# Altium schematic symbol library ICs_Misc.SchLib: 36 symbols
Pins are listed as number, name and electrical type; pins without a type are passive.

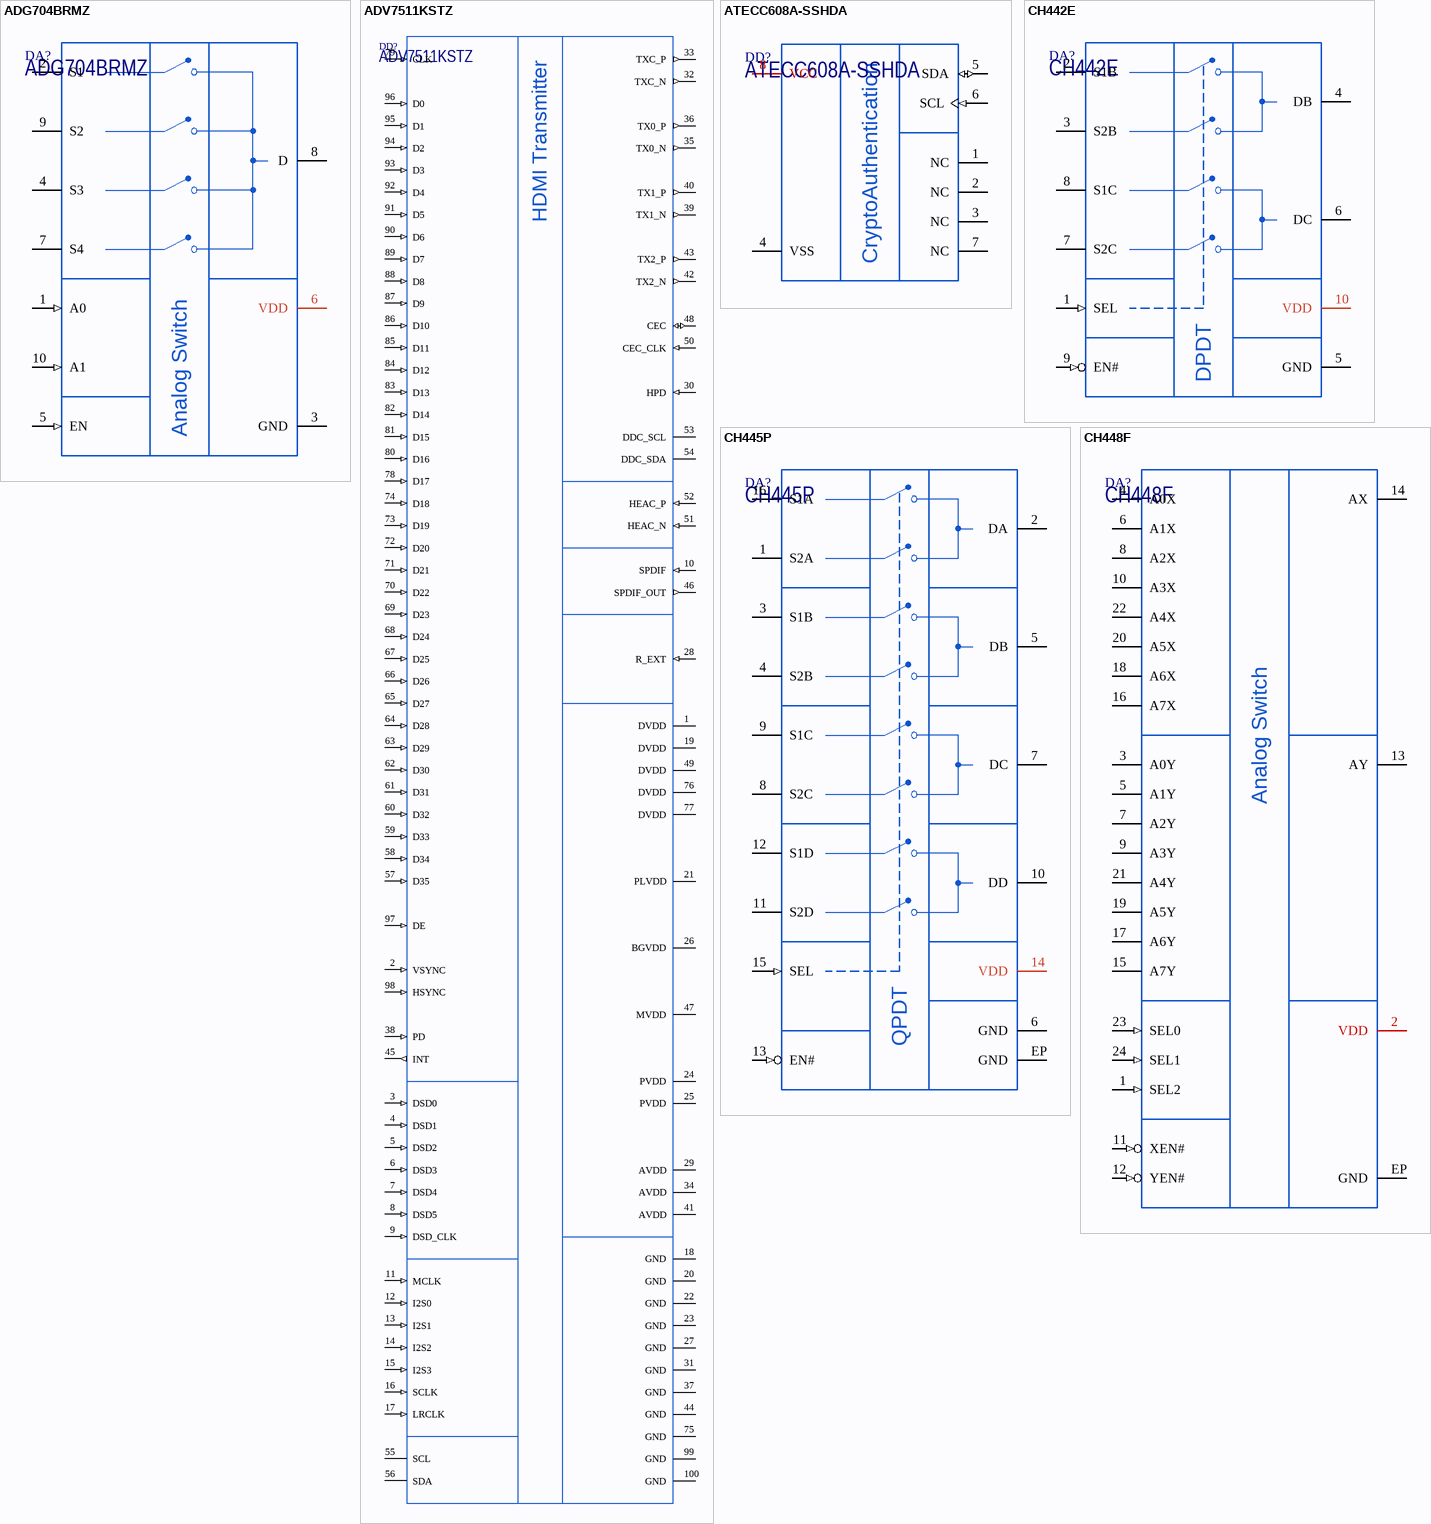
[diagram p0: symbols ADG704BRMZ to CH448F]

## ADG704BRMZ
designator DA?
CMOS Low Voltage 4 Ohm, 4-Channel Multiplexer; Manufacturer: Analog Devices; Marking: 9B; ItemType: IC; ItemSubType: Mux; PartNumber: ADG704BRMZ; Package: MSOP-10; Mounting: SMD
footprint RM10_ADG704 (uSOIC-10, 10-Leads, Body 3.00x3.00mm, Pitch 0.5mm, AD Reference RM-10)
pins: 1 A0 (in), 2 S1, 3 GND, 4 S3, 5 EN (in), 6 VDD (power), 7 S4, 8 D, 9 S2, 10 A1 (in)
text: Analog Switch

## ADV7511KSTZ
designator DD?
225 MHz, High Performance HDMI Transmitter with ARC; Manufacturer: Analog Devices; ItemType: IC; ItemSubType: Bridge; PartNumber: ADV7511KSTZ; Package: LQFP-100; Marking: ADV7511; Mounting: SMD
footprint LQFP100_ADV7511 (Analog Devices case style ST-100, compatible JEDEC MS-026-BED, 100-Leads, Body 14,00x14,00mm, Pitch 0,50mm)
pins: 1 DVDD (power), 2 VSYNC (in), 3 DSD0 (in), 4 DSD1 (in), 5 DSD2 (in), 6 DSD3 (in), 7 DSD4 (in), 8 DSD5 (in), 9 DSD_CLK (in), 10 SPDIF (in), 11 MCLK (in), 12 I2S0 (in), 13 I2S1 (in), 14 I2S2 (in), 15 I2S3 (in), 16 SCLK (in), 17 LRCLK (in), 18 GND, 19 DVDD (power), 20 GND, 21 PLVDD (power), 22 GND, 23 GND, 24 PVDD (power), 25 PVDD (power), 26 BGVDD (power), 27 GND, 28 R_EXT (in), 29 AVDD (power), 30 HPD (in), 31 GND, 32 TXC_N (out), 33 TXC_P (out), 34 AVDD (power), 35 TX0_N (out), 36 TX0_P (out), 37 GND, 38 PD (in), 39 TX1_N (out), 40 TX1_P (out), 41 AVDD (power), 42 TX2_N (out), 43 TX2_P (out), 44 GND, 45 INT (out), 46 SPDIF_OUT (out), 47 MVDD (power), 48 CEC (io), 49 DVDD (power), 50 CEC_CLK (in), 51 HEAC_N (in), 52 HEAC_P (in), 53 DDC_SCL (oc), 54 DDC_SDA (oc), 55 SCL (oc), 56 SDA (oc), 57 D35 (in), 58 D34 (in), 59 D33 (in), 60 D32 (in), 61 D31 (in), 62 D30 (in), 63 D29 (in), 64 D28 (in), 65 D27 (in), 66 D26 (in), 67 D25 (in), 68 D24 (in), 69 D23 (in), 70 D22 (in), 71 D21 (in), 72 D20 (in), 73 D19 (in), 74 D18 (in), 75 GND, 76 DVDD (power), 77 DVDD (power), 78 D17 (in), 79 CLK (in), 80 D16 (in), 81 D15 (in), 82 D14 (in), 83 D13 (in), 84 D12 (in), 85 D11 (in), 86 D10 (in), 87 D9 (in), 88 D8 (in), 89 D7 (in), 90 D6 (in), 91 D5 (in), 92 D4 (in), 93 D3 (in), 94 D2 (in), 95 D1 (in), 96 D0 (in), 97 DE (in), 98 HSYNC (in), 99 GND, 100 GND
text: HDMI Transmitter

## ATECC608A-SSHDA
designator DD?
Cryptographic Co-processor with Secure Hardware-based Key Storage; Manufacturer: Microchip; ItemType: IC; ItemSubType: CryptoAuthentication; Package: SOIC-8; PartNumber: ATECC608A-SSHDA; Mounting: SMD
footprint SOIC8_JEDEC_MS012AA (SOIC, 8-Leads, Body 3.90x4.90mm, Pitch 1.27mm)
footprint SOIC8_ATECC608A_With_UDFN8 (SOIC-8 package with UDFN-8 2mm x 3mm, 0.5mm pitch)
pins: 1 NC (hiz), 2 NC (hiz), 3 NC (hiz), 4 VSS, 5 SDA (io), 6 SCL (in), 7 NC (hiz), 8 VCC (power)

## CH442E
designator DA?
Double-pole Double-throw Low-Resistance Analog Switch IC; Manufacturer: WinChipHead; ItemSubType: Mux; PartNumber: CH442E; Package: MSOP-10; ItemType: IC; Mounting: SMD
footprint MSOP10_WCH (MSOP, 10-Leads, Body 3.00x3.00mm, Pitch 0.5mm)
pins: 1 SEL (in), 2 S1B, 3 S2B, 4 DB, 5 GND, 6 DC, 7 S2C, 8 S1C, 9 EN# (in), 10 VDD (power)
text: DPDT

## CH445P
designator DA?
Quad-pole Double-throw 3.3V Low-Resistance Analog Switch IC; Manufacturer: WinChipHead; ItemSubType: Mux; PartNumber: CH445P; Package: MSOP-10; ItemType: IC; Mounting: SMD
footprint QFN16_WCH (QFN16 3mm x 3mm, 0.5mm pitch)
pins: 1 S2A, 2 DA, 3 S1B, 4 S2B, 5 DB, 6 GND, 7 DC, 8 S2C, 9 S1C, 10 DD, 11 S2D, 12 S1D, 13 EN# (in), 14 VDD (power), 15 SEL (in), 16 S1A, EP GND
text: QPDT

## CH448F
designator DA?
Single-pole 16-throw, or Differential Channel Double-pole Eight-throw 5V / Low-Resistance Analog Switch IC; Manufacturer: WinChipHead; ItemSubType: Mux; PartNumber: CH448F; Package: QFN-24; ItemType: IC; Mounting: SMD
footprint QFN24_CH448F (QFN, 24-Leads, Body 4x4mm, Pitch 0.50mm, Thermal Pad 2.8x2.8mm)
pins: 1 SEL2 (in), 2 VDD (power), 3 A0Y, 4 A0X, 5 A1Y, 6 A1X, 7 A2Y, 8 A2X, 9 A3Y, 10 A3X, 11 XEN# (in), 12 YEN# (in), 13 AY, 14 AX, 15 A7Y, 16 A7X, 17 A6Y, 18 A6X, 19 A5Y, 20 A5X, 21 A4Y, 22 A4X, 23 SEL0 (in), 24 SEL1 (in), EP GND
text: Analog Switch

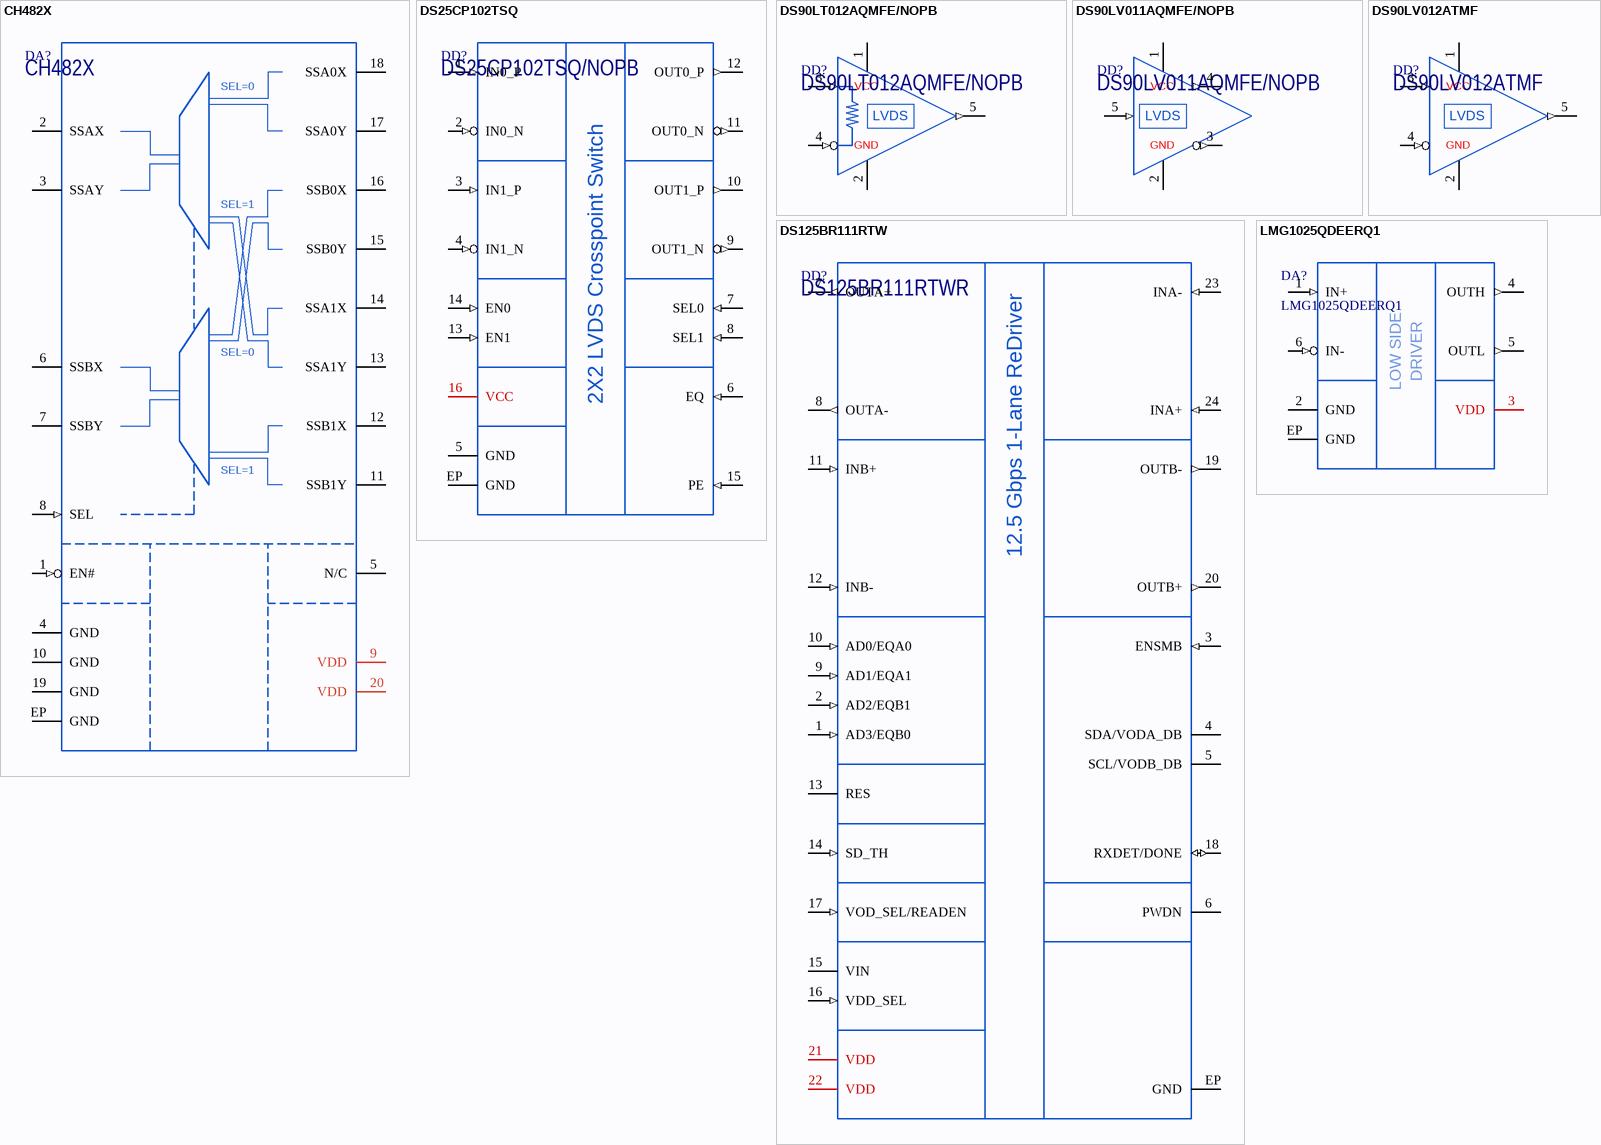
[diagram p1: symbols CH482X to LMG1025QDEERQ1]

## CH482X
designator DA?
Quad-Pole Double-Throw Super-Speed / Analog Switch; Manufacturer: WinChipHead; ItemType: IC; ItemSubType: Mux; PartNumber: CH482X; Package: QFN20-2.5X4.5; Mounting: SMD
footprint QFN20-2.5X4.5_WCH (QFN 2.5mm x 4.5mm, 0.5mm pitch)
pins: 1 EN# (in), 2 SSAX, 3 SSAY, 4 GND, 5 N/C, 6 SSBX, 7 SSBY, 8 SEL (in), 9 VDD (power), 10 GND, 11 SSB1Y, 12 SSB1X, 13 SSA1Y, 14 SSA1X, 15 SSB0Y, 16 SSB0X, 17 SSA0Y, 18 SSA0X, 19 GND, 20 VDD (power), EP GND
text: SEL=0; SEL=1

## DS25CP102TSQ
designator DD?, comment DS25CP102TSQ/NOPB
3.125 Gbps 2X2 LVDS Crosspoint Switch with Transmit Pre-Emphasis and Receive Equalization; Manufacturer: Texas Instruments; Marking: 2C102SQ; ItemType: IC; PartNumber: DS25CP102TSQ/NOPB; Package: WQFN-16; ItemSubType: Crosspoint Switch; Mounting: SMD
footprint WQFN16_RGH0016A (Power WQFN 4mm x 4mm, TI case RGH0016A)
pins: 1 IN0_P (in), 2 IN0_N (in), 3 IN1_P (in), 4 IN1_N (in), 5 GND, 6 EQ (in), 7 SEL0 (in), 8 SEL1 (in), 9 OUT1_N (out), 10 OUT1_P (out), 11 OUT0_N (out), 12 OUT0_P (out), 13 EN1 (in), 14 EN0 (in), 15 PE (in), 16 VCC (power), EP GND
text: 2X2 LVDS Crosspoint Switch

## DS90LT012AQMFE/NOPB
designator DD?
Automotive LVDS Differential Line Receiver; Manufacturer: Texas Instruments; ItemType: IC; ItemSubType: LVDS Driver; Marking: N03Q; PartNumber: DS90LT012AQMFE/NOPB; Package: SOT23-5; Mounting: SMD
footprint SOT235_JEDEC_MO178AA (SOT23, 5-Leads, Body 1.60x2.90mm, Pitch 0.95mm)
pins: 1 VCC (power), 2 GND, 3 IN+ (in), 4 IN- (in), 5 TTLOUT (out)
text: LVDS

## DS90LV011AQMFE/NOPB
designator DD?
3V LVDS Single High Speed Differential Driver; Manufacturer: Texas Instruments; ItemType: IC; ItemSubType: LVDS Driver; Marking: N01Q; PartNumber: DS90LV011AQMFE/NOPB; Package: SOT23-5; Mounting: SMD
footprint SOT235_JEDEC_MO178AA (SOT23, 5-Leads, Body 1.60x2.90mm, Pitch 0.95mm)
pins: 1 VCC (power), 2 GND, 3 OUT- (out), 4 OUT+ (out), 5 TTLIN (in)
text: LVDS

## DS90LV012ATMF
designator DD?
Automotive LVDS Differential Line Receiver; Manufacturer: Texas Instruments; ItemType: IC; ItemSubType: LVDS Driver; Marking: N02; PartNumber: DS90LV012ATMF; Package: SOT23-5; Mounting: SMD
footprint SOT235_JEDEC_MO178AA (SOT23, 5-Leads, Body 1.60x2.90mm, Pitch 0.95mm)
pins: 1 VCC (power), 2 GND, 3 IN+ (in), 4 IN- (in), 5 TTLOUT (out)
text: LVDS

## DS125BR111RTW
designator DD?, comment DS125BR111RTWR
12.5 Gbps 1-Lane Linear Repeater with Equalization; Manufacturer: Texas Instruments; Marking: 2B111A0; ItemType: IC; ItemSubType: Driver; Alternative1: DS125BR111RTWT; Package: QFN-24; PartNumber: DS125BR111RTWR; AltManufacturer1: Texas Instruments; Mounting: SMD
footprint QFN24_RTW0024A (WQFN 4mm x 4mm, 0.5mm pitch, TI case style RTW0024A)
pins: 1 AD3/EQB0 (in), 2 AD2/EQB1 (in), 3 ENSMB (in), 4 SDA/VODA_DB (oc), 5 SCL/VODB_DB (oc), 6 PWDN (hiz), 7 OUTA+ (out), 8 OUTA- (out), 9 AD1/EQA1 (in), 10 AD0/EQA0 (in), 11 INB+ (in), 12 INB- (in), 13 RES (hiz), 14 SD_TH (in), 15 VIN (power), 16 VDD_SEL (in), 17 VOD_SEL/READEN (in), 18 RXDET/DONE (io), 19 OUTB- (out), 20 OUTB+ (out), 21 VDD (power), 22 VDD (power), 23 INA- (in), 24 INA+ (in), EP GND
text: 12.5 Gbps 1-Lane ReDriver

## LMG1025QDEERQ1
designator DA?
Low Side GaN and MOSFET Driver; Manufacturer: Texas Instruments; Marking: LMG; ItemType: IC; Package: WSON-6; PartNumber: LMG1025QDEERQ1; ItemSubType: MOSFET Driver; Mounting: SMD
footprint WSON6_DEE0006A (DFN 2mm x 2mm, TI case DEE0006A)
pins: 1 IN+ (in), 2 GND, 3 VDD (power), 4 OUTH (out), 5 OUTL (out), 6 IN- (in), EP GND
text: LOW SIDE; DRIVER

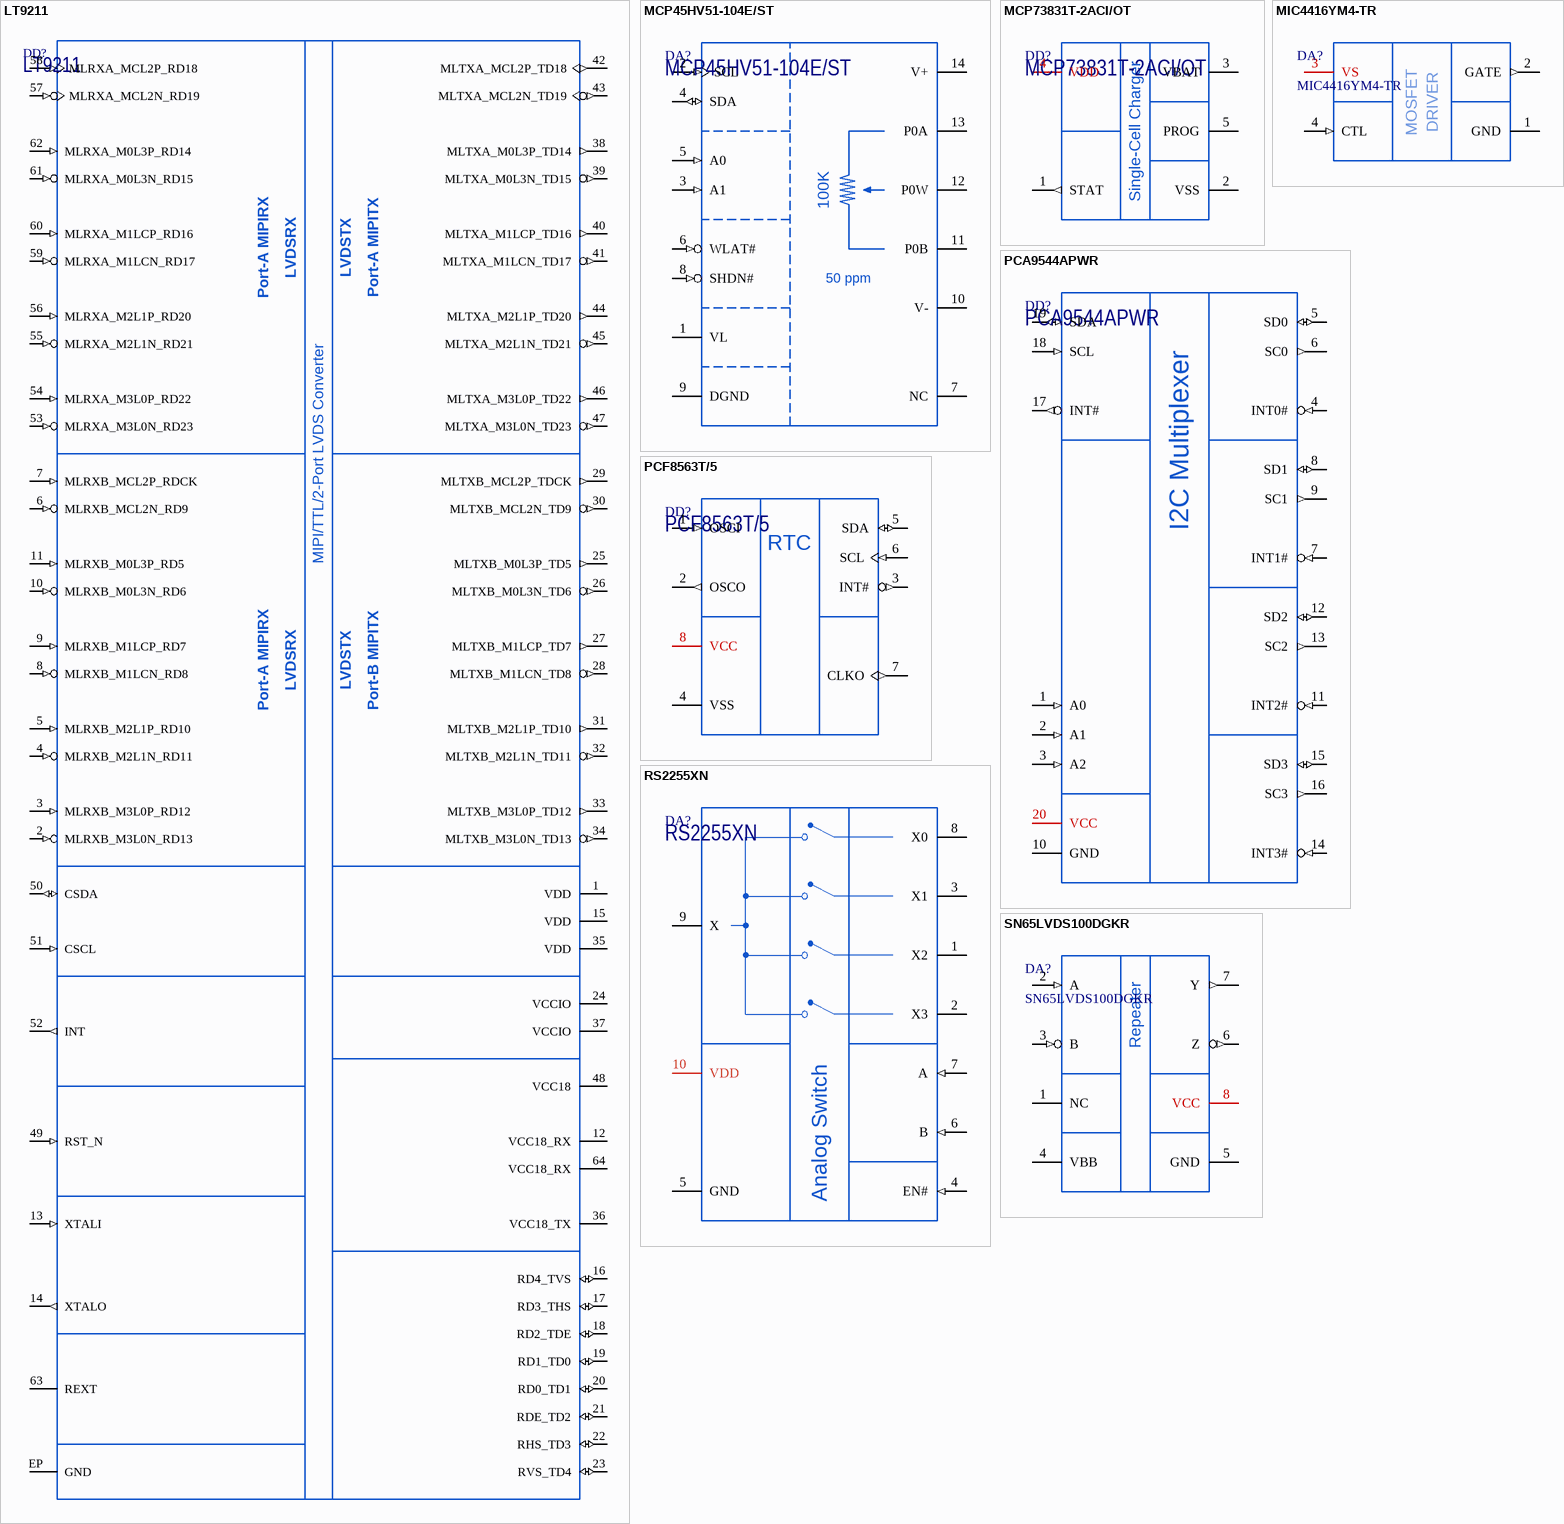
[diagram p2: symbols LT9211 to SN65LVDS100DGKR]

## LT9211
designator DD?
MIPI/TTL/2-Port LVDS to MIPI/TTL/2-Port LVDS Converter; Manufacturer: Lontium; ItemType: IC; ItemSubType: Bridge; PartNumber: LT9211; Package: QFN-64; Mounting: SMD
footprint QFN64_LONTIUM (Power QFN 7.5mm x 7.5mm, 0.4mm pitch)
pins: 1 VDD (power), 2 MLRXB_M3L0N_RD13 (in), 3 MLRXB_M3L0P_RD12 (in), 4 MLRXB_M2L1N_RD11 (in), 5 MLRXB_M2L1P_RD10 (in), 6 MLRXB_MCL2N_RD9 (in), 7 MLRXB_MCL2P_RDCK (in), 8 MLRXB_M1LCN_RD8 (in), 9 MLRXB_M1LCP_RD7 (in), 10 MLRXB_M0L3N_RD6 (in), 11 MLRXB_M0L3P_RD5 (in), 12 VCC18_RX (power), 13 XTALI (in), 14 XTALO (out), 15 VDD (power), 16 RD4_TVS (io), 17 RD3_THS (io), 18 RD2_TDE (io), 19 RD1_TD0 (io), 20 RD0_TD1 (io), 21 RDE_TD2 (io), 22 RHS_TD3 (io), 23 RVS_TD4 (io), 24 VCCIO (power), 25 MLTXB_M0L3P_TD5 (out), 26 MLTXB_M0L3N_TD6 (out), 27 MLTXB_M1LCP_TD7 (out), 28 MLTXB_M1LCN_TD8 (out), 29 MLTXB_MCL2P_TDCK (out), 30 MLTXB_MCL2N_TD9 (out), 31 MLTXB_M2L1P_TD10 (out), 32 MLTXB_M2L1N_TD11 (out), 33 MLTXB_M3L0P_TD12 (out), 34 MLTXB_M3L0N_TD13 (out), 35 VDD (power), 36 VCC18_TX (power), 37 VCCIO (power), 38 MLTXA_M0L3P_TD14 (out), 39 MLTXA_M0L3N_TD15 (out), 40 MLTXA_M1LCP_TD16 (out), 41 MLTXA_M1LCN_TD17 (out), 42 MLTXA_MCL2P_TD18 (out), 43 MLTXA_MCL2N_TD19 (out), 44 MLTXA_M2L1P_TD20 (out), 45 MLTXA_M2L1N_TD21 (out), 46 MLTXA_M3L0P_TD22 (out), 47 MLTXA_M3L0N_TD23 (out), 48 VCC18 (power), 49 RST_N (in), 50 CSDA (io), 51 CSCL (in), 52 INT (out), 53 MLRXA_M3L0N_RD23 (in), 54 MLRXA_M3L0P_RD22 (in), 55 MLRXA_M2L1N_RD21 (in), 56 MLRXA_M2L1P_RD20 (in), 57 MLRXA_MCL2N_RD19 (in), 58 MLRXA_MCL2P_RD18 (in), 59 MLRXA_M1LCN_RD17 (in), 60 MLRXA_M1LCP_RD16 (in), 61 MLRXA_M0L3N_RD15 (in), 62 MLRXA_M0L3P_RD14 (in), 63 REXT, 64 VCC18_RX (power), EP GND
text: Port-A MIPIRX; LVDSRX; LVDSTX; Port-A MIPITX; MIPI/TTL/2-Port LVDS Converter; Port-B MIPITX

## MCP45HV51-104E/ST
designator DA?
I2C 8-bit Digital Potentiometer 100 kOhm; Manufacturer: Microchip; ItemType: IC; Marking: 45H51104; PartNumber: MCP45HV51-104E/ST; Package: TSSOP-14; ItemSubType: Potentiometer; Mounting: SMD
footprint TSSOP14_MICROCHIP (TSSOP, 14-Leads, Body 5.0x4.40mm, Pitch 0.65mm)
pins: 1 VL (power), 2 SCL (in), 3 A1 (in), 4 SDA (io), 5 A0 (in), 6 WLAT# (in), 7 NC, 8 SHDN# (in), 9 DGND, 10 V-, 11 P0B, 12 P0W, 13 P0A, 14 V+
text: 100K; 50 ppm

## MCP73831T-2ACI/OT
designator DD?
Single-Cell, Fully Integrated Li-Ion, Li-Polymer Charge Management Controllers; Manufacturer: Microchip; Marking: KDxx; ItemType: IC; ItemSubType: Charger; Alternative1: MCP73831T-2ADI/OT; Package: SOT23-5; PartNumber: MCP73831T-2ACI/OT; AltManufacturer1: Microchip; Mounting: SMD
footprint SOT235_JEDEC_MO178AA (SOT23, 5-Leads, Body 1.60x2.90mm, Pitch 0.95mm)
pins: 1 STAT (out), 2 VSS, 3 VBAT (power), 4 VDD (power), 5 PROG
text: Single-Cell Charger

## MIC4416YM4-TR
designator DA?
IC Gate Driver Low-Side; Manufacturer: Microchip; Marking: D10; ItemSubType: MOSFET Driver; Package: SOT143; PartNumber: MIC4416YM4-TR; ItemType: IC; Mounting: SMD
footprint SOT143_TO253 (TO253 (SOT143), 4-Leads, Body 1.30x2.90mm, Pitch 1.92mm)
pins: 1 GND, 2 GATE (out), 3 VS (power), 4 CTL (in)
text: MOSFET; DRIVER

## PCA9544APWR
designator DD?
4-Channel I2C and SMBus Multiplexer With Interrupt Logic; Manufacturer: Texas Instruments; AltManufacturer1: NXP; Marking: PD544A; ItemType: IC; Package: TSSOP-20; PartNumber: PCA9544APWR; Alternative1: PCA9544APW; ItemSubType: Multiplexer; Mounting: SMD
footprint TSSOP20_JEDEC_MO153AC (TSSOP, 20-Leads, Body 6.50x4.40mm, Pitch 0.65mm)
pins: 1 A0 (in), 2 A1 (in), 3 A2 (in), 4 INT0# (in), 5 SD0 (io), 6 SC0 (out), 7 INT1# (in), 8 SD1 (io), 9 SC1 (out), 10 GND, 11 INT2# (in), 12 SD2 (io), 13 SC2 (out), 14 INT3# (in), 15 SD3 (io), 16 SC3 (out), 17 INT# (out), 18 SCL (in), 19 SDA (io), 20 VCC (power)
text: I2C Multiplexer

## PCF8563T/5
designator DD?
Real-time clock/calendar; Manufacturer: NXP USA Inc.; ItemType: IC; ItemSubType: RTC; Package: SOIC-8; PartNumber: PCF8563T/5; Marking: PCF8563; Mounting: SMD
footprint SOIC8_JEDEC_MS012AA (SOIC, 8-Leads, Body 3.90x4.90mm, Pitch 1.27mm)
pins: 1 OSCI (in), 2 OSCO (out), 3 INT# (out), 4 VSS, 5 SDA (io), 6 SCL (in), 7 CLKO (out), 8 VCC (power)

## RS2255XN
designator DA?
4-Channel Analog Multiplexer/Demultiplexer 24 Ohm @ 5V; Manufacturer: Runic; Marking: 2255; ItemType: IC; ItemSubType: Mux; PartNumber: RS2255XN; Package: MSOP-10; Mounting: SMD
footprint MSOP10_JEDEC_MO187BA (MSOP, 10-Leads, Body 3.00x3.00mm, Pitch 0.5mm)
pins: 1 X2, 2 X3, 3 X1, 4 EN# (in), 5 GND, 6 B (in), 7 A (in), 8 X0, 9 X, 10 VDD (power)
text: Analog Switch

## SN65LVDS100DGKR
designator DA?
Differential Translator/Repeater; Manufacturer: Texas Instruments; Marking: AZK; ItemType: IC; Package: VSSOP-8; PartNumber: SN65LVDS100DGKR; ItemSubType: Repeater; Mounting: SMD
footprint VSSOP8_S-PDSO-G8 (MSOP, 8-Leads, Body 3.00x3.00mm, Pitch 0.65mm, TI case S-PDSO-G8)
pins: 1 NC (hiz), 2 A (in), 3 B (in), 4 VBB, 5 GND, 6 Z (out), 7 Y (out), 8 VCC (power)

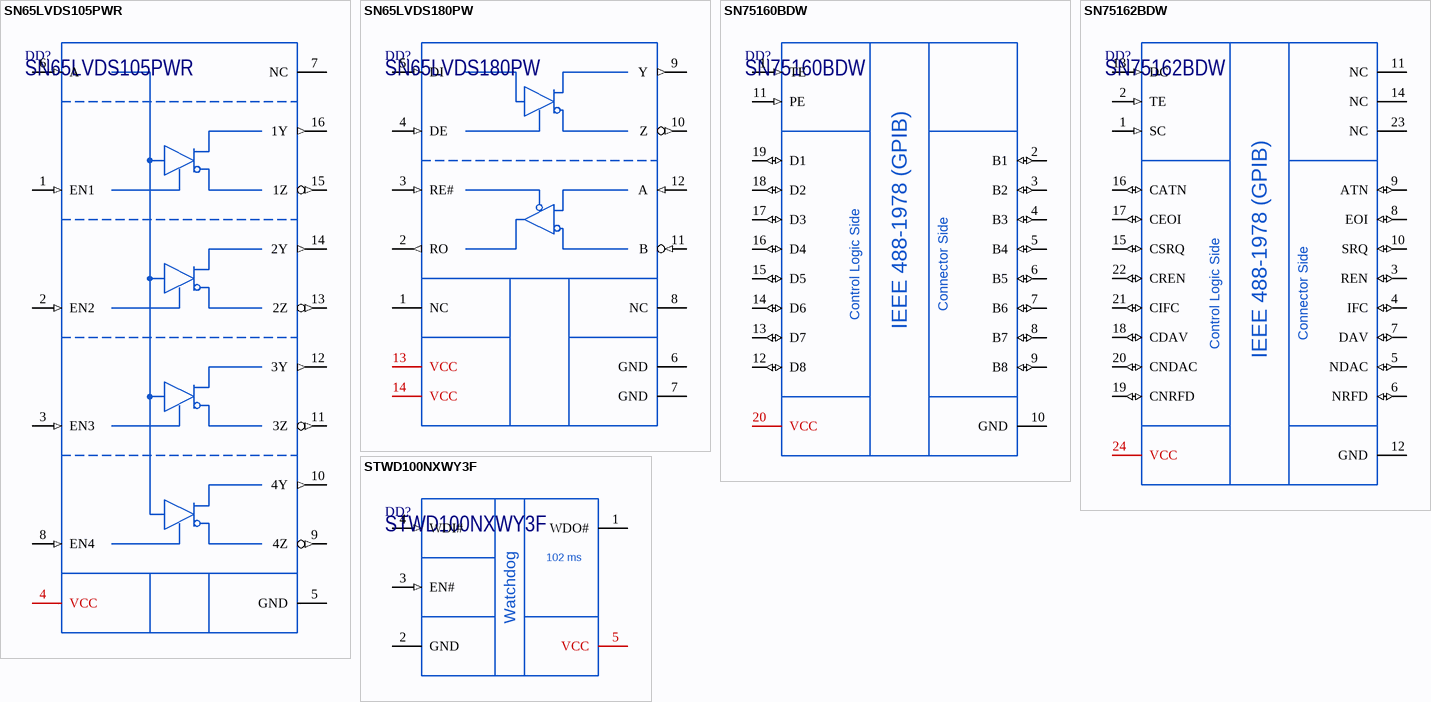
[diagram p3: symbols SN65LVDS105PWR to STWD100NXWY3F]

## SN65LVDS105PWR
designator DD?
4-Port TTL-to-LVDS Repeater; Manufacturer: Texas Instruments; ItemType: IC; PartNumber: SN65LVDS105PWR; Package: TSSOP-16; ItemSubType: Repeater; Marking: LVDS105; Mounting: SMD
footprint TSSOP16_PW0016A (TSSOP, 16-Leads, Body 5.0x4.40mm, Pitch 0.65mm TI case style PW0016A)
pins: 1 EN1 (in), 2 EN2 (in), 3 EN3 (in), 4 VCC (power), 5 GND, 6 A (in), 7 NC (hiz), 8 EN4 (in), 9 4Z (out), 10 4Y (out), 11 3Z (out), 12 3Y (out), 13 2Z (out), 14 2Y (out), 15 1Z (out), 16 1Y (out)

## SN65LVDS180PW
designator DD?
High-Speed Differential Line Drivers and Receivers; Manufacturer: Texas Instruments; ItemType: IC; ItemSubType: Transceiver; PartNumber: SN65LVDS180PW; Package: TSSOP-14; Marking: LVDS180; Mounting: SMD
footprint TSSOP14_PW0014A (TSSOP, 14-Leads, Body 5.0x4.40mm, Pitch 0.65mm TI case style PW0014A)
pins: 1 NC (hiz), 2 RO (out), 3 RE# (in), 4 DE (in), 5 DI (in), 6 GND, 7 GND, 8 NC (hiz), 9 Y (out), 10 Z (out), 11 B (in), 12 A (in), 13 VCC (power), 14 VCC (power)

## SN75160BDW
designator DD?
Octal General-Purpose Interface Bus Transceiver, Meets IEEE Standard 488-1978 (GPIB); Manufacturer: Texas Instruments; ItemType: IC; PartNumber: SN75160BDW; Package: SOIC-20; ItemSubType: GPIB; Mounting: SMD
footprint SOIC20_DW0020A (SOIC20 300mil, 20-Leads, Body 7.5x12.8mm, TI Case style DW0020A)
pins: 1 TE (in), 2 B1 (io), 3 B2 (io), 4 B3 (io), 5 B4 (io), 6 B5 (io), 7 B6 (io), 8 B7 (io), 9 B8 (io), 10 GND, 11 PE (in), 12 D8 (io), 13 D7 (io), 14 D6 (io), 15 D5 (io), 16 D4 (io), 17 D3 (io), 18 D2 (io), 19 D1 (io), 20 VCC (power)
text: IEEE 488-1978 (GPIB); Control Logic Side; Connector Side

## SN75162BDW
designator DD?
Octal General-Purpose Interface Bus Transceivers, Meets IEEE Standard 488-1978 (GPIB); Manufacturer: Texas Instruments; ItemType: IC; PartNumber: SN75162BDW; Package: SOIC-24; ItemSubType: GPIB; Mounting: SMD
footprint SOIC24_R-PDSO-G24 (SOIC20 300mil, 24-Leads, Body 7.5x15.4mm, TI Case style R-PDSO-G24)
pins: 1 SC (in), 2 TE (in), 3 REN (io), 4 IFC (io), 5 NDAC (io), 6 NRFD (io), 7 DAV (io), 8 EOI (io), 9 ATN (io), 10 SRQ (io), 11 NC, 12 GND, 13 DC (in), 14 NC, 15 CSRQ (io), 16 CATN (io), 17 CEOI (io), 18 CDAV (io), 19 CNRFD (io), 20 CNDAC (io), 21 CIFC (io), 22 CREN (io), 23 NC, 24 VCC (power)
text: IEEE 488-1978 (GPIB); Control Logic Side; Connector Side

## STWD100NXWY3F
designator DD?
102 ms watchdog timer circuit; Manufacturer: STMicroelectronics; Marking: WNX; ItemType: IC; Package: SOT23-5; PartNumber: STWD100NXWY3F; ItemSubType: Watchdog; Mounting: SMD
footprint SOT235_JEDEC_MO178AA (SOT23, 5-Leads, Body 1.60x2.90mm, Pitch 0.95mm)
pins: 1 WDO# (oc), 2 GND, 3 EN# (in), 4 WDI# (in), 5 VCC (power)
text: 102 ms

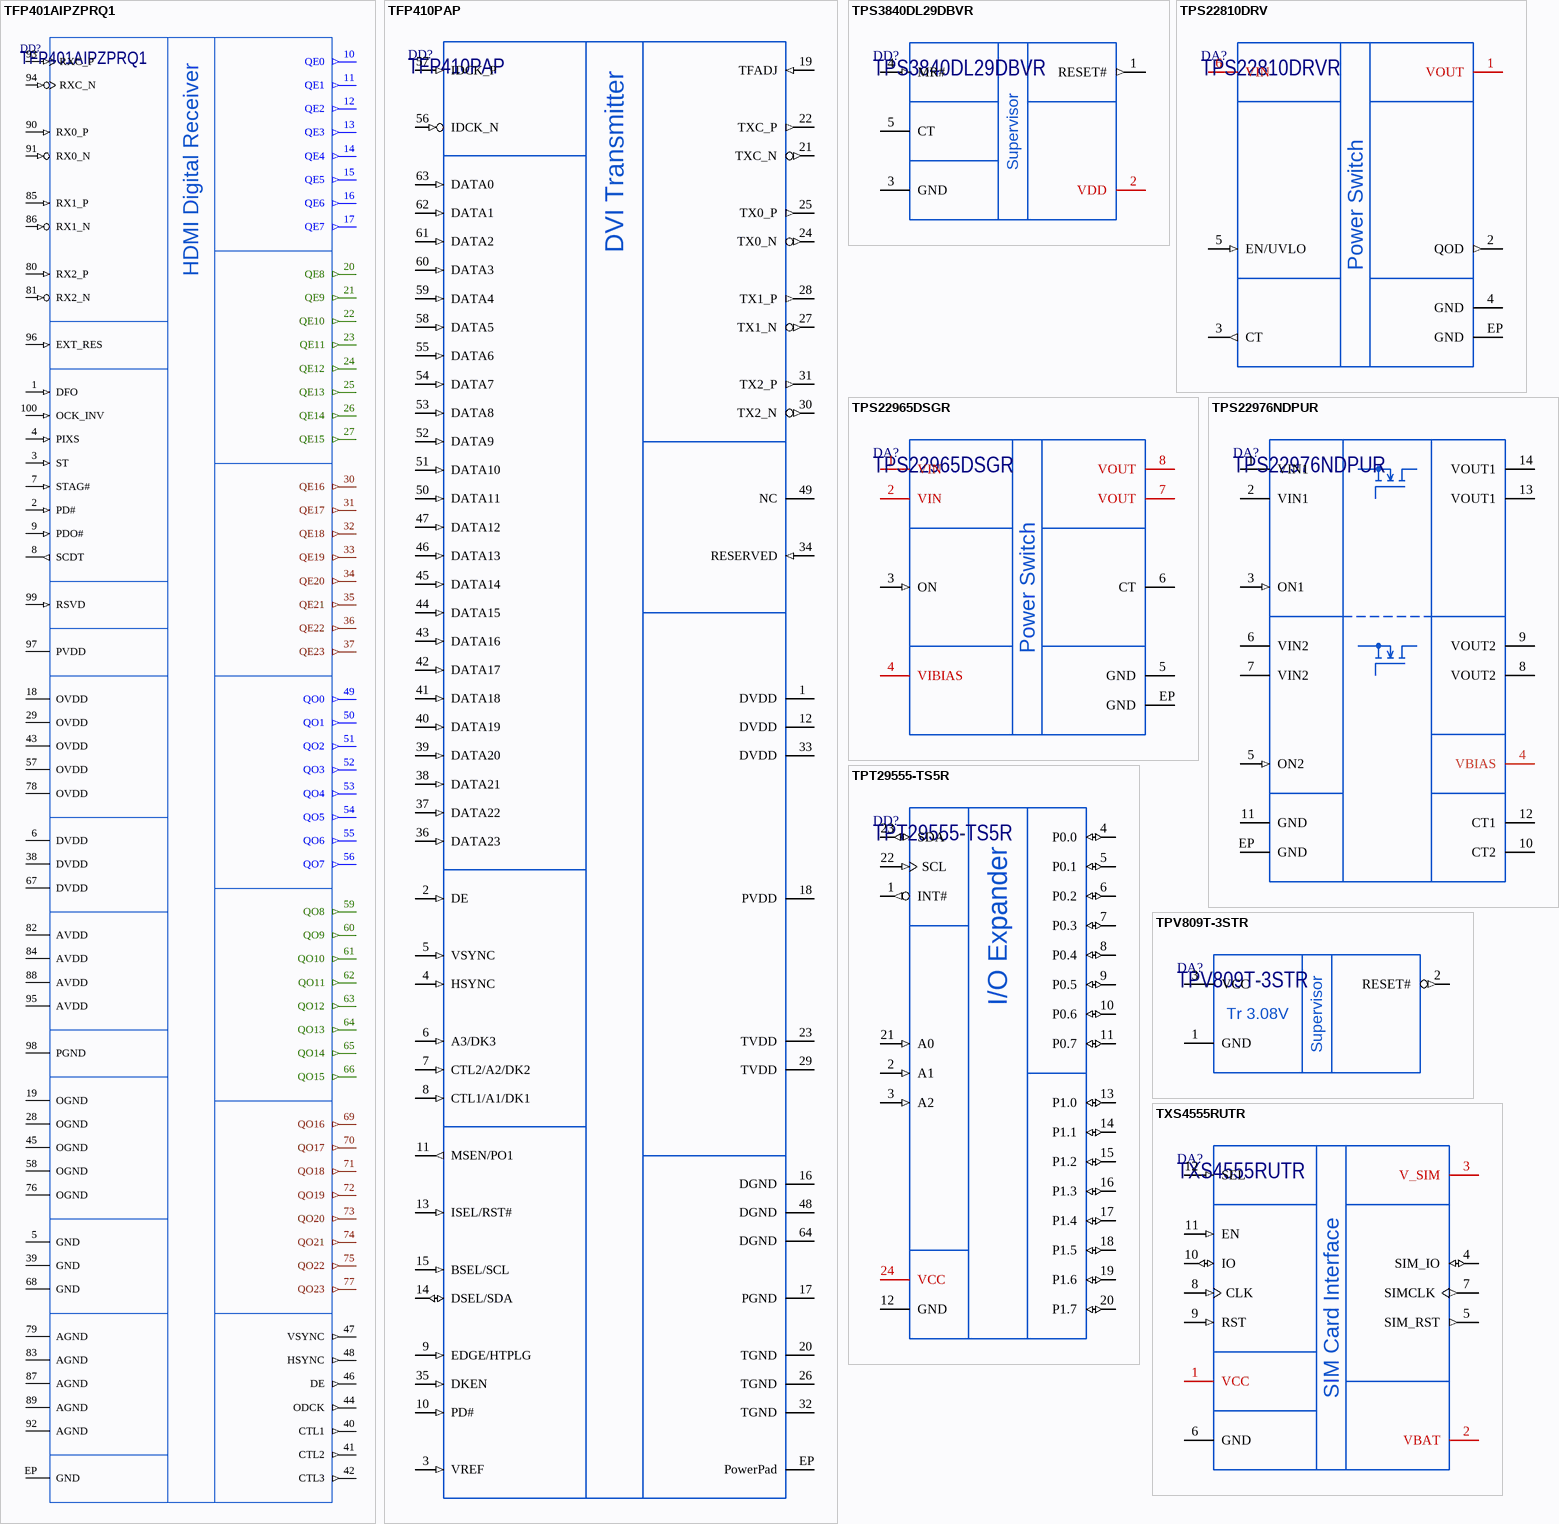
[diagram p4: symbols TFP401AIPZPRQ1 to TXS4555RUTR]

## TFP401AIPZPRQ1
designator DD?
HDMI Digital Receiver; Manufacturer: Texas Instruments; ItemType: IC; ItemSubType: Bridge; PartNumber: TFP401AIPZPRQ1; Package: QFN-24; Marking: TFP401A; Mounting: SMD
footprint PQFP100_TFP401 (PQFP, 100-Leads, Body 14,00x14,00mm, Pitch 0,50mm)
pins: 1 DFO (in), 2 PD# (in), 3 ST (in), 4 PIXS (in), 5 GND, 6 DVDD (power), 7 STAG# (in), 8 SCDT (out), 9 PDO# (in), 10 QE0 (out), 11 QE1 (out), 12 QE2 (out), 13 QE3 (out), 14 QE4 (out), 15 QE5 (out), 16 QE6 (out), 17 QE7 (out), 18 OVDD (power), 19 OGND, 20 QE8 (out), 21 QE9 (out), 22 QE10 (out), 23 QE11 (out), 24 QE12 (out), 25 QE13 (out), 26 QE14 (out), 27 QE15 (out), 28 OGND, 29 OVDD (power), 30 QE16 (out), 31 QE17 (out), 32 QE18 (out), 33 QE19 (out), 34 QE20 (out), 35 QE21 (out), 36 QE22 (out), 37 QE23 (out), 38 DVDD (power), 39 GND, 40 CTL1 (out), 41 CTL2 (out), 42 CTL3 (out), 43 OVDD (power), 44 ODCK (out), 45 OGND, 46 DE (out), 47 VSYNC (out), 48 HSYNC (out), 49 QO0 (out), 50 QO1 (out), 51 QO2 (out), 52 QO3 (out), 53 QO4 (out), 54 QO5 (out), 55 QO6 (out), 56 QO7 (out), 57 OVDD (power), 58 OGND, 59 QO8 (out), 60 QO9 (out), 61 QO10 (out), 62 QO11 (out), 63 QO12 (out), 64 QO13 (out), 65 QO14 (out), 66 QO15 (out), 67 DVDD (power), 68 GND, 69 QO16 (out), 70 QO17 (out), 71 QO18 (out), 72 QO19 (out), 73 QO20 (out), 74 QO21 (out), 75 QO22 (out), 76 OGND, 77 QO23 (out), 78 OVDD (power), 79 AGND, 80 RX2_P (in), 81 RX2_N (in), 82 AVDD (power), 83 AGND, 84 AVDD (power), 85 RX1_P (in), 86 RX1_N (in), 87 AGND, 88 AVDD (power), 89 AGND, 90 RX0_P (in), 91 RX0_N (in), 92 AGND, 93 RXC_P (in), 94 RXC_N (in), 95 AVDD (power), 96 EXT_RES (in), 97 PVDD (power), 98 PGND, 99 RSVD (in), 100 OCK_INV (in), EP GND

## TFP410PAP
designator DD?
Digital Transmitter; Manufacturer: Texas Instruments; ItemType: IC; ItemSubType: Bridge; PartNumber: TFP410PAP; Package: PQFP-64; Marking: TFP410PAP; Mounting: SMD
footprint PQFP64_TFP410PAP (PQFP, 64-Leads, Body 10.00x10.00mm, Pitch 0.50mm, Power Pad 5.00x5.00mm)
pins: 1 DVDD (power), 2 DE (in), 3 VREF (in), 4 HSYNC (in), 5 VSYNC (in), 6 A3/DK3 (in), 7 CTL2/A2/DK2 (in), 8 CTL1/A1/DK1 (in), 9 EDGE/HTPLG (in), 10 PD# (in), 11 MSEN/PO1 (out), 12 DVDD (power), 13 ISEL/RST# (in), 14 DSEL/SDA (io), 15 BSEL/SCL (in), 16 DGND, 17 PGND, 18 PVDD (power), 19 TFADJ (in), 20 TGND, 21 TXC_N (out), 22 TXC_P (out), 23 TVDD (power), 24 TX0_N (out), 25 TX0_P (out), 26 TGND, 27 TX1_N (out), 28 TX1_P (out), 29 TVDD (power), 30 TX2_N (out), 31 TX2_P (out), 32 TGND, 33 DVDD (power), 34 RESERVED (in), 35 DKEN (in), 36 DATA23 (in), 37 DATA22 (in), 38 DATA21 (in), 39 DATA20 (in), 40 DATA19 (in), 41 DATA18 (in), 42 DATA17 (in), 43 DATA16 (in), 44 DATA15 (in), 45 DATA14 (in), 46 DATA13 (in), 47 DATA12 (in), 48 DGND, 49 NC (hiz), 50 DATA11 (in), 51 DATA10 (in), 52 DATA9 (in), 53 DATA8 (in), 54 DATA7 (in), 55 DATA6 (in), 56 IDCK_N (in), 57 IDCK_P (in), 58 DATA5 (in), 59 DATA4 (in), 60 DATA3 (in), 61 DATA2 (in), 62 DATA1 (in), 63 DATA0 (in), 64 DGND, EP PowerPad
text: DVI Transmitter

## TPS3840DL29DBVR
designator DD?
Voltage Supervisor With MR and Programmable Delay; Manufacturer: Texas Instruments; Marking: DL29; ItemType: IC; Package: SOT23-5; PartNumber: TPS3840DL29DBVR; ItemSubType: Supervisor; Mounting: SMD
footprint SOT235_JEDEC_MO178AA (SOT23, 5-Leads, Body 1.60x2.90mm, Pitch 0.95mm)
pins: 1 RESET# (out), 2 VDD (power), 3 GND, 4 MR# (in), 5 CT

## TPS22810DRV
designator DA?, comment TPS22810DRVR
Power Distribution Switch; Manufacturer: Texas Instruments; Marking: 1CRH; ItemType: IC; ItemSubType: Load Switch; Alternative1: TPS22810DRVT; Package: WSON-6; PartNumber: TPS22810DRVR; AltManufacturer1: Texas Instruments; Mounting: SMD
footprint WSON6_DRV0006A (DFN 2mm x 2mm, TI case DRV0006A)
pins: 1 VOUT (power), 2 QOD (out), 3 CT (out), 4 GND, 5 EN/UVLO (in), 6 VIN (power), EP GND
text: Power Switch

## TPS22965DSGR
designator DA?
+0.8V .. +5.7V Load Switch; Manufacturer: Texas Instruments; Marking: ZSA0; ItemType: IC; Package: WSON-8; PartNumber: TPS22965DSGR; ItemSubType: Load Switch; Mounting: SMD
footprint WSON8_DSG0008A (WSON, 8-Leads, Body 2.00x2.00mm, Pitch 0.5mm, TI case DSG0008A)
pins: 1 VIN (power), 2 VIN (power), 3 ON (in), 4 VIBIAS (power), 5 GND, 6 CT, 7 VOUT (power), 8 VOUT (power), EP GND
text: Power Switch

## TPS22976NDPUR
designator DA?
Dual-Channel Load Switch; Manufacturer: Analog Devices; Marking: 22976N; ItemType: IC; PartNumber: TPS22976NDPUR; Package: PWSON-14; ItemSubType: Load Switch; Mounting: SMD
footprint WSON14_TPS22976 (WSON, 14-Leads, Body 2.00x3.00mm, Exposed Pad 0.90 x 2.50 mm, Pitch 0.4mm. TI case style R-PWSON-N14)
pins: 1 VIN1, 2 VIN1, 3 ON1 (in), 4 VBIAS (power), 5 ON2 (in), 6 VIN2, 7 VIN2, 8 VOUT2, 9 VOUT2, 10 CT2, 11 GND, 12 CT1, 13 VOUT1, 14 VOUT1, EP GND

## TPT29555-TS5R
designator DD?
I2C to 16-bit GPIO Expander with Interrupt; Manufacturer: 3PEAK; AltManufacturer1: NXP; Alternative1: PCA9535PW,118; Marking: 29555; ItemType: IC; Package: TSSOP-24; PartNumber: TPT29555-TS5R; ItemSubType: Expander; Mounting: SMD
footprint TSSOP24_JEDEC_MO153AD (TSSOP, 24-Leads, Body 7.8.0x4.40mm, Pitch 0.65mm)
pins: 1 INT# (out), 2 A1 (in), 3 A2 (in), 4 P0.0 (io), 5 P0.1 (io), 6 P0.2 (io), 7 P0.3 (io), 8 P0.4 (io), 9 P0.5 (io), 10 P0.6 (io), 11 P0.7 (io), 12 GND, 13 P1.0 (io), 14 P1.1 (io), 15 P1.2 (io), 16 P1.3 (io), 17 P1.4 (io), 18 P1.5 (io), 19 P1.6 (io), 20 P1.7 (io), 21 A0 (in), 22 SCL (in), 23 SDA (io), 24 VCC (power)
text: I/O Expander

## TPV809T-3STR
designator DA?
Low Voltage Supervisory Circuit; Manufacturer: 3PEAK; Marking: V2T; ItemType: IC; PartNumber: TPV809T-3STR; Package: SOT23-3; ItemSubType: Supervisor; Mounting: SMD
footprint SOT23_TO236AB (TO236AB (SOT23-3), 3-Leads, Body 1.30x2.90mm, Pitch 0.95mm)
pins: 1 GND, 2 RESET# (out), 3 VCC (power)
text: Tr 3.08V

## TXS4555RUTR
designator DA?
SIM card interface level translator with EMI filter and ESD protection; Manufacturer: Texas Instruments; Marking: 69R; ItemType: IC; PartNumber: TXS4555RUTR; Package: QFN-12; ItemSubType: Level Translator; Mounting: SMD
footprint R-PUQFN10-N12 (QFN, 12 leads, 1.7mm x 2mm, 0.4mm pitch. TI case R-PUQFN10-N12)
pins: 1 VCC (power), 2 VBAT (power), 3 V_SIM (power), 4 SIM_IO (io), 5 SIM_RST (out), 6 GND, 7 SIMCLK (out), 8 CLK (in), 9 RST (in), 10 IO (io), 11 EN (in), 12 SEL (in)
text: SIM Card Interface

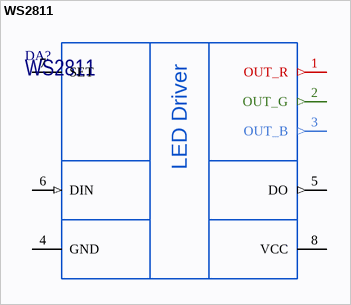
[diagram p5: symbol WS2811]

## WS2811
designator DA?
Signal line 256 Gray level 3 channel Constant current LED driver IC; Manufacturer: WorldSemi; PartNumber: WS2811; Package: SOIC-8; Marking: WS2811; ItemType: IC; ItemSubType: LED Driver; Mounting: SMD
footprint SOIC8_JEDEC_MS012AA (SOIC, 8-Leads, Body 3.90x4.90mm, Pitch 1.27mm)
pins: 1 OUT_R (out), 2 OUT_G (out), 3 OUT_B (out), 4 GND, 5 DO (out), 6 DIN (in), 7 SET, 8 VCC (power)